# Altium schematic symbol library 7499110122.SchLib: 1 symbol
Pins are listed as number, name and electrical type; pins without a type are passive.

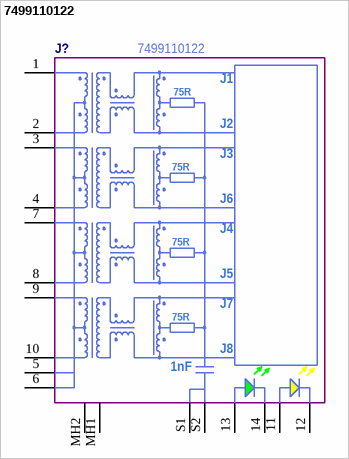
[diagram p0: symbol 7499110122]

## 7499110122
designator J?  Manufacturer Part Number: 7499110122  (hidden comment: *)
pins: 1 10, 2 11, 3 12, 4 13, 5 14, 6 15, 7 16, 8 17, 9 18, 10 19, 11 20, 12 21, 13 22, 14 23, MH1 26, MH2 25, S1 24, S2 25
text: J1; 75R; J2; J3; J6; J4; J5; J7; J8; 1nF